# Altium schematic symbol library PowerSupply.SchLib: 43 symbols
Pins are listed as number, name and electrical type; pins without a type are passive.

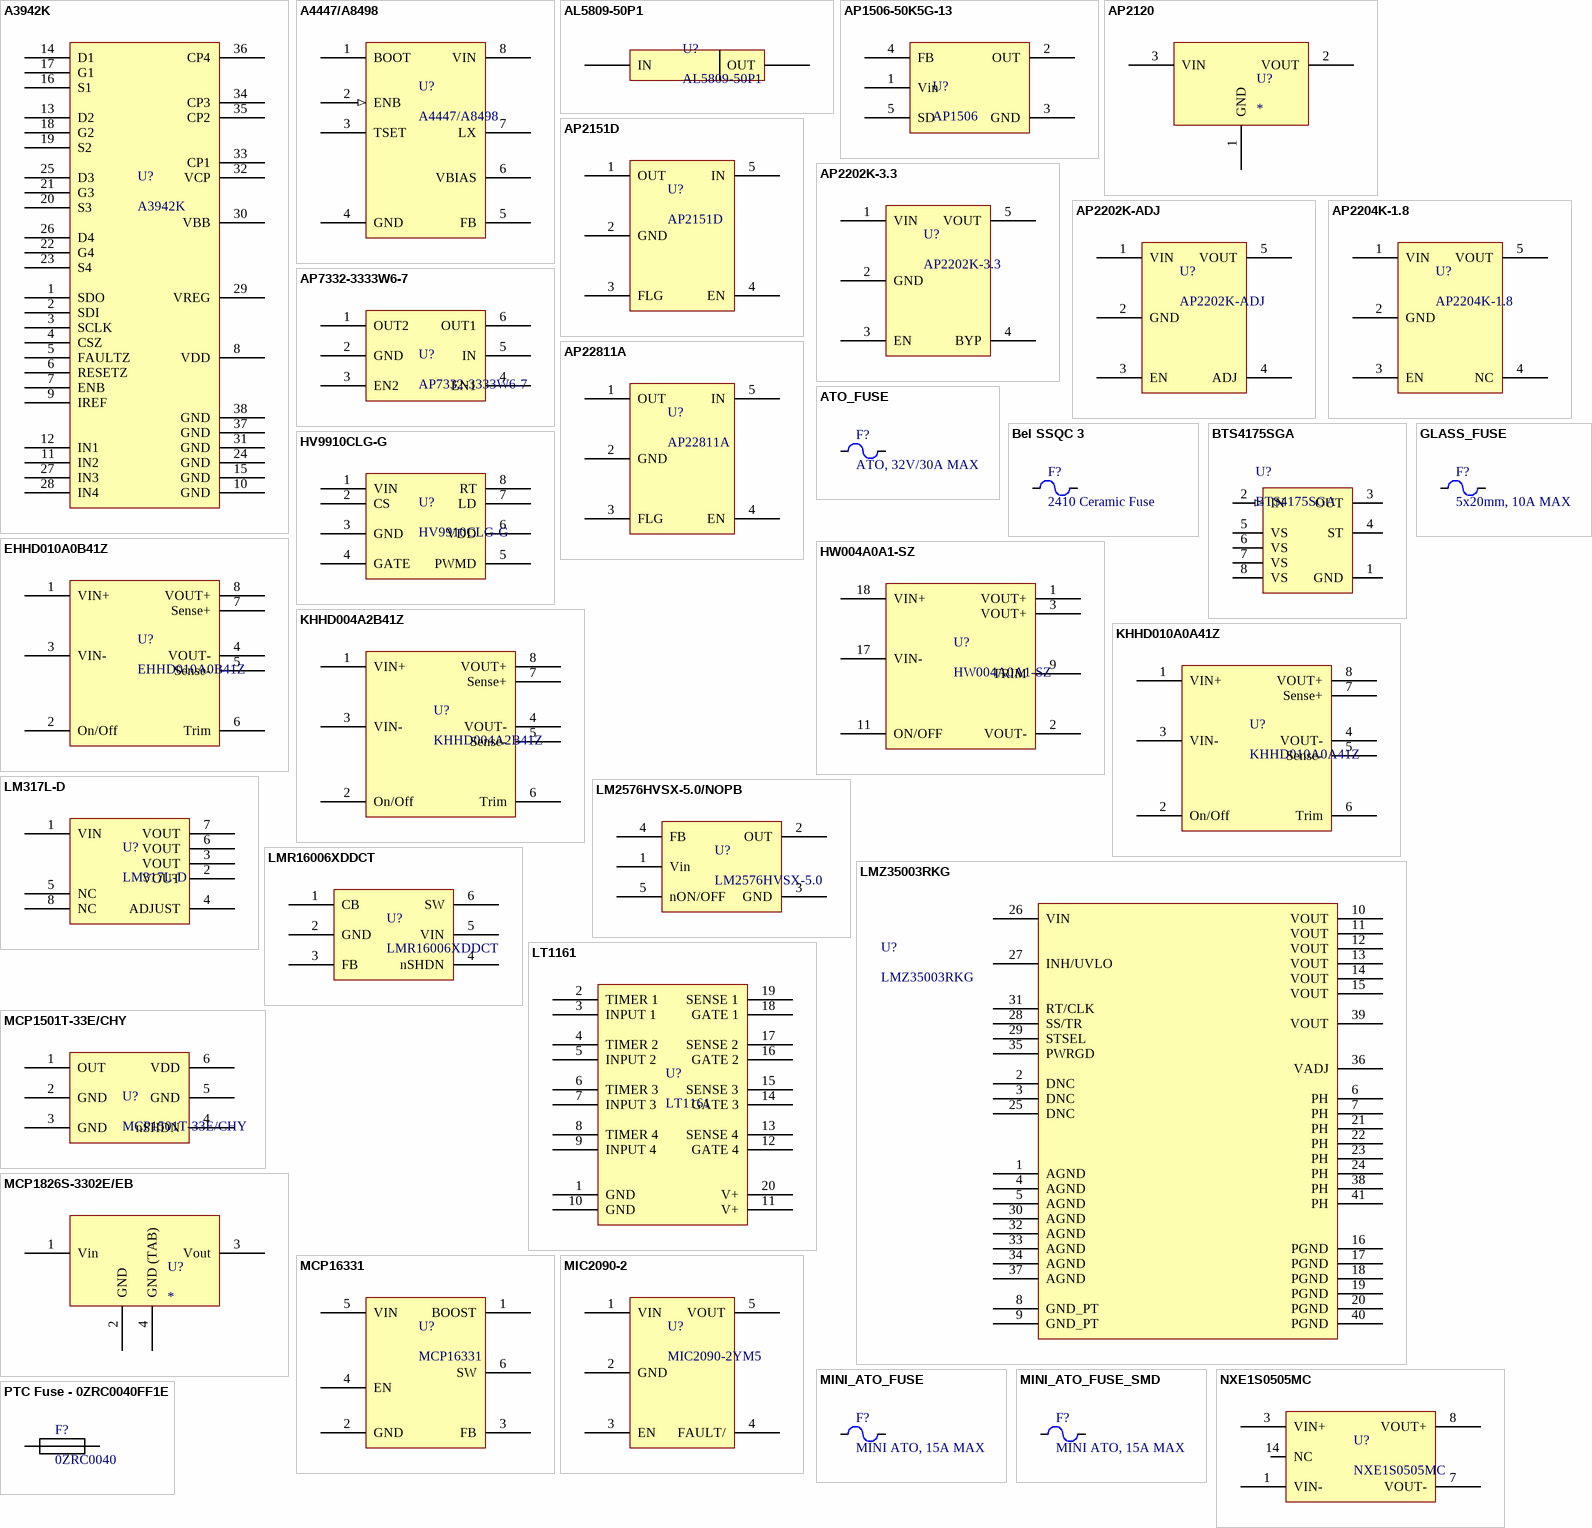
[diagram p0: symbols A3942K to PTC Fuse - 0ZRC0040FF1E]

## A3942K
designator U?
Quad High Side NFET Gate Driver
footprint A3942K - TSSOP50P640X120-38N (TSSOP, 38-Leads, Body 9.8x4.5mm (max), Pitch 0.50mm, IPC Medium Density)
pins: 1 SDO, 2 SDI, 3 SCLK, 4 CSZ, 5 FAULTZ, 6 RESETZ, 7 ENB, 8 VDD, 9 IREF, 10 GND, 11 IN2, 12 IN1, 13 D2, 14 D1, 15 GND, 16 S1, 17 G1, 18 G2, 19 S2, 20 S3, 21 G3, 22 G4, 23 S4, 24 GND, 25 D3, 26 D4, 27 IN3, 28 IN4, 29 VREG, 30 VBB, 31 GND, 32 VCP, 33 CP1, 34 CP3, 35 CP2, 36 CP4, 37 GND, 38 GND

## A4447/A8498
designator U?
Buck Converter, 50V input, 1.5A Adjustable Output; Supplier 1: Digi-Key; Supplier Part Number 1: 620-1329-1-ND; Supplier 2: Digi-Key; Supplier Part Number 2: 620-1160-1-ND
footprint A4447/A8498 - SOIC127P600X175_HS-9N (SOIC, 8-Leads, Body 4.90x3.90mm, Pitch 1.27mm, Thermal Pad 3.30x2.41mm, IPC Medium Density)
pins: 1 BOOT "Gate drive boost node", 2 ENB (in), 3 TSET "Off time setting", 4 GND (power), 5 FB "Feedback for adjustable regulation", 6 VBIAS "Bias supply input", 7 LX "Buck switching node", 8 VIN (power) "Supply input"

## AL5809-50P1
designator U?
LED Driver IC 1 Output Linear  PWM Dimming 50mA PowerDI™ 123; Supplier 1: Digi-Key; Supplier 2: Mouser; Supplier Part Number 1: AL5809-50P1-7DICT-ND; Supplier Part Number 2: 621-AL5809-50P1-7
footprint AL5809 - SODFL370X100-2M (SODFL, 2-Leads, Body 1.78x3.70mm, IPC Low Density)
pins: 1 IN, 2 OUT

## AP1506-50K5G-13
designator U?, comment AP1506
footprint AP1506-50K5G-13 (D2-PAK, 6-Pads, Body 9.6x10.5mm (max), IPC Medium Density)
pins: 1 Vin, 2 OUT, 3 GND, 4 FB, 5 SD

## AP2120
designator U?
3.3V LDO Low Noise
footprint AP2120_SOT23 (SOT23, 3-Leads, Body 3.0x2.5mm (max), Pitch 0.89mm, IPC Medium Density)
pins: 1 GND, 2 VOUT, 3 VIN

## AP2151D
designator U?
USB Power Switch/Driver 500mA SOT-25; Supplier 1: Digi-Key; Supplier 2: Mouser; Supplier Part Number 1: AP2151DWG-7DICT-ND; Supplier Part Number 2: 621-AP2151DWG-7
footprint AP22811 - SOT95P285X140-5M (SOT23, 5-Leads, Body 3.00x2.85mm, Pitch 0.95mm, IPC Low Density)
pins: 1 OUT, 2 GND, 3 FLG, 4 EN, 5 IN

## AP2202K-3.3
designator U?
3.3V 150mA LDO regulator; Supplier 1: Mouser; Supplier Part Number 1: 621-AP2202K-3.3TRG1; Supplier 2: Digi-Key; Supplier Part Number 2: AP2202K-3.3TRG1DICT-ND; Supplier 3: Arrow; Supplier Part Number 3: PWagzdsTFFHKE_U17B45SP-NtndBrheJIaI5hB7gHD0ZVywxIBNyoAQstvnyfZZ0
footprint AP2202 - SOT95P270X145-5N (SOT23, 5-Leads, Body 2.92x2.70mm, Pitch 0.95mm, IPC Medium Density)
pins: 1 VIN, 2 GND, 3 EN, 4 BYP, 5 VOUT

## AP2202K-ADJ
designator U?
Adjustable Linear Regulator, 13.2V input; Supplier 1: Digi-Key; Supplier Part Number 1: AP2202K-ADJTRG1DICT-ND; Supplier 2: Digi-Key; Supplier Part Number 2: 576-1262-1-ND
footprint AP2202 - SOT95P270X145-5N (SOT23, 5-Leads, Body 2.92x2.70mm, Pitch 0.95mm, IPC Medium Density)
pins: 1 VIN, 2 GND, 3 EN, 4 ADJ, 5 VOUT

## AP2204K-1.8
designator U?
Linear Voltage Regulator IC 1 Output 150mA SOT-23-5; Supplier 1: Digi-Key; Supplier 2: Mouser; Supplier Part Number 1: AP2204K-1.8TRG1DICT-ND; Supplier Part Number 2: 621-AP2204K-1.8TRG1
footprint AP2202 - SOT95P270X145-5N (SOT23, 5-Leads, Body 2.92x2.70mm, Pitch 0.95mm, IPC Medium Density)
pins: 1 VIN, 2 GND, 3 EN, 4 NC, 5 VOUT

## AP7332-3333W6-7
designator U?
Dual 300mA, 3.3V LDO, 60uA Iq
footprint AP7332-3333W6-7 - SOT95P285X130-6N (SOT23, 6-Leads, Body 3.1x3.0mm (max), Pitch 0.95mm, IPC Medium Density)
pins: 1 OUT2, 2 GND, 3 EN2, 4 EN1, 5 IN, 6 OUT1

## AP22811A
designator U?
USB Power Switch/Driver 2A SOT-25; Supplier 1: Digi-Key; Supplier 2: Mouser; Supplier Part Number 1: AP22811AW5-7DICT-ND; Supplier Part Number 2: 621-AP22811AW5-7
footprint AP22811 - SOT95P285X140-5M (SOT23, 5-Leads, Body 3.00x2.85mm, Pitch 0.95mm, IPC Low Density)
pins: 1 OUT, 2 GND, 3 FLG, 4 EN, 5 IN

## ATO_FUSE
designator F?, comment ATO, 32V/30A MAX
ATO Fuse holder, 1A - 30A at 32V; Supplier 1: Digi-Key; Supplier Part Number 1: BK-6010-ND
footprint BK-6010
pins: 1, 2

## Bel SSQC 3
designator F?, comment 2410 Ceramic Fuse
2410 Ceramic fuse holder, 2A - 15A; Supplier 1: Digi-Key; Supplier Part Number 1: 507-2020-1-ND
footprint Ceramic 2410 Fuse (Ceramic 2410 fuse holder, 15A. Compatible with Bel SSQC/SSTC and LittelFuse 154 OMNIBLOK. Also accommodates Mini ATO (Keystone 3586))
pins: 1, 2

## BTS4175SGA
designator U?
Smart High-Side Power Switch, 1 Channel, 1.3 A Load Current, -40 to 150 degC, PG-DSO-8-24, Reel, Green; Manufacturer: Infineon; Channels: 1; Green: TRUE; Group: Automotive Qualified; Load Current (typ): 1.3 A; Ptot (max): 1.5 W; Recommended Operating Voltage Max.: 52 V; Recommended Operating Voltage Min.: 6 V; RON @ 25degreesC: 175 mOhm; RON(max) @ 150degreesC: 350 mOhm; toff (max): 200 us; ton (max): 180 us; DatasheetVersion: Rev.1.0; PackageVersion: May-07; PackageReference: PG-DSO-8-24; PackageDescription: 8-Pin Plastic (Green) Dual Small Outline Package, 4.9 x 3.9 mm Body, 1.27 mm Pitch; Supplier 1: Digi-Key; Supplier Part Number 1: BTS4175SGATR-ND; Supplier 2: Digi-Key; Supplier Part Number 2: BTS4175SGACT-ND; Supplier 3: Digi-Key; Supplier Part Number 3: BTS4175SGADKR-ND; Supplier 4: Farnell; Supplier Part Number 4: 2215521; Supplier 5: Newark; Supplier Part Number 5: 47W3392; Supplier 6: Mouser; Supplier Part Number 6: 726-BTS4175SGA; Halogen-free: TRUE; Packing: Reel; Mounting Technology: Surface Mount; PartNumber: BTS4175SGA; ComponentLink1Description: Manufacturer URL; ComponentLink1URL: http://www.infineon.com/; ComponentLink2Description: Datasheet; ComponentLink2URL: http://www.infineon.com/dgdl/BTS4175SGA_final_DS_17-04-29.pdf?folderId=db3a304314dca389011537739e37155f&fileId=db3a30431a5c32f2011a6d4a1040744e&location=en.Products.Automotive_ICs.Smart_High-_and_Low-Side_Switches.PROFET__-_Smart_High_Side_Switches.DATASHEET.BTS4175SGA_final_DS_17-04-29.pdf; ComponentLink3Description: Package Specification; ComponentLink3URL: http://www.infineon.com/dgdl/BSP742RI.pdf?folderId=db3a304314dca389011537739e37155f&fileId=db3a304316f112290116f22466b271a6&sId=db3a30433d68e984013d83055b4a7981
footprint INF-PG-DSO-8-24_N (SOP, 8-Leads, Body 4.9x3.9mm, Pitch 1.27mm, IPC Medium Density)
pins: 1 GND (power) "Ground; Ground connection", 2 IN (in) "Input channel; Input signal. Activate the channel in case of logic high level", 3 OUT (power) "Output; Protected High side power output channel", 4 ST (oc) "Diagnostic feedback; of channel. Open drain.", 5 VS (power) "Battery voltage; Design the wiring for the simultaneous max. short circuit current and also for low thermal resistance", 6 VS (power) "Battery voltage; Design the wiring for the simultaneous max. short circuit current and also for low thermal resistance", 7 VS (power) "Battery voltage; Design the wiring for the simultaneous max. short circuit current and also for low thermal resistance", 8 VS (power) "Battery voltage; Design the wiring for the simultaneous max. short circuit current and also for low thermal resistance"

## EHHD010A0B41Z
designator U?
Isolated DC/DC Converter, 12V 10A Output, 18V - 75V Input; Supplier 1: Digi-Key; Supplier Part Number 1: 555-1341-ND
footprint EHHD010A0B41Z (Isolated DC/DC Converter, 1/8th brick)
pins: 1 VIN+, 2 On/Off, 3 VIN-, 4 VOUT-, 5 Sense-, 6 Trim, 7 Sense+, 8 VOUT+

## GLASS_FUSE
designator F?, comment 5x20mm, 10A MAX
Supplier 1: Digi-Key; Supplier Part Number 1: 486-2019-ND
footprint FUSE - 111 501, 5x15 2AG
pins: 1, 2

## HV9910CLG-G
designator U?
Constant Current Buck Converter
footprint HV9910CLG-G (SOIC, 8-Leads, Body 5.0x4.0mm (max), Pitch 1.27mm, IPC Medium Density)
pins: 1 VIN, 2 CS, 3 GND, 4 GATE, 5 PWMD, 6 VDD, 7 LD, 8 RT

## HW004A0A1-SZ
designator U?
Isolated 5V/4A DC/DC converter, 48V input, negative on/off logic; Supplier 1: Digi-Key; Supplier Part Number 1: 555-1220-ND; Supplier 2: Arrow; Supplier Part Number 2: 3nn0xz0bW4CCVmuvfJnCt84UR2e0IF72dSwPFJFhBqo
footprint HW004A0A-S (5V/4A DC-DC Isolated power module)
pins: 1 VOUT+, 2 VOUT-, 3 VOUT+, 9 TRIM, 11 ON/OFF, 17 VIN-, 18 VIN+

## KHHD004A2B41Z
designator U?
Isolated DC/DC Converter 12V/4.2A Output (50W), 18V - 75V Input; Supplier 1: Digi-Key; Supplier Part Number 1: 555-1295-ND
footprint KHHD004A2B41Z (Isolated DC/DC Converter, 50W Output (5/12V), 18V - 75V Input)
pins: 1 VIN+, 2 On/Off, 3 VIN-, 4 VOUT-, 5 Sense-, 6 Trim, 7 Sense+, 8 VOUT+

## KHHD010A0A41Z
designator U?
Isolated DC/DC Converter 5V/10A Output (50W), 18V - 75V Input; Supplier 1: Digi-Key; Supplier Part Number 1: 555-1297-ND
footprint KHHD004A2B41Z (Isolated DC/DC Converter, 50W Output (5/12V), 18V - 75V Input)
pins: 1 VIN+, 2 On/Off, 3 VIN-, 4 VOUT-, 5 Sense-, 6 Trim, 7 Sense+, 8 VOUT+

## LM317L-D
designator U?
100mA Adjustable Output Linear Regulator; Supplier 1: Digi-Key; Supplier Part Number 1: LM317LDR2GOSCT-ND; Supplier 2: Mouser; Supplier Part Number 2: 863-LM317LDR2G
footprint LM317L - SOIC127P600X175-8M (SOIC, 8-Leads, Body 4.90x3.90mm, Pitch 1.27mm, IPC Low Density)
simulation model LM317
pins: 1 VIN, 2 VOUT, 3 VOUT, 4 ADJUST, 5 NC, 6 VOUT, 7 VOUT, 8 NC

## LM2576HVSX-5.0/NOPB
designator U?, comment LM2576HVSX-5.0
footprint TL2575HV-12IKTTR
pins: 1 Vin, 2 OUT, 3 GND, 4 FB, 5 nON/OFF

## LMR16006XDDCT
designator U?
0.6A 60V Buck converter, 28uA Quiescent Current; Supplier 1: Mouser; Supplier Part Number 1: 595-LMR16006XDDCT; Supplier 2: Digi-Key; Supplier Part Number 2: 296-38546-1-ND; Supplier 3: Arrow; Supplier Part Number 3: bwZbQCg-gXK66epyvm3AdWFyWDcBn-UaULM0ahAOy8M
footprint LMR16006XDDCT - SOT95P280X110-6N (SOT23, 6-Leads, Body 3.0x3.0mm (max), Pitch 0.95mm, IPC Medium Density)
pins: 1 CB, 2 GND, 3 FB, 4 nSHDN, 5 VIN, 6 SW

## LMZ35003RKG
designator U?
DC/DC Converter 1 2.5 ~ 15 V 2.5A Output, 7V - 50V Input; Supplier 1: Digi-Key; Supplier Part Number 1: 296-43647-1-ND
footprint LMZ35003RKG
pins: 1 AGND, 2 DNC, 3 DNC, 4 AGND, 5 AGND, 6 PH, 7 PH, 8 GND_PT, 9 GND_PT, 10 VOUT, 11 VOUT, 12 VOUT, 13 VOUT, 14 VOUT, 15 VOUT, 16 PGND, 17 PGND, 18 PGND, 19 PGND, 20 PGND, 21 PH, 22 PH, 23 PH, 24 PH, 25 DNC, 26 VIN, 27 INH/UVLO, 28 SS/TR, 29 STSEL, 30 AGND, 31 RT/CLK, 32 AGND, 33 AGND, 34 AGND, 35 PWRGD, 36 VADJ, 37 AGND, 38 PH, 39 VOUT, 40 PGND, 41 PH

## LT1161
designator U?
Quad High-Side NFET Driver
footprint LTC1161 (SOP, 20-Leads, Body 13.0x7.6mm (max), Pitch 1.27mm, IPC Medium Density)
pins: 1 GND, 2 TIMER 1, 3 INPUT 1, 4 TIMER 2, 5 INPUT 2, 6 TIMER 3, 7 INPUT 3, 8 TIMER 4, 9 INPUT 4, 10 GND, 11 V+, 12 GATE 4, 13 SENSE 4, 14 GATE 3, 15 SENSE 3, 16 GATE 2, 17 SENSE 2, 18 GATE 1, 19 SENSE 1, 20 V+

## MCP1501T-33E/CHY
designator U?
3.3V Reference, 0.1%, 20mA, 50PPM Tc; Supplier 2: Digi-Key; Supplier Part Number 2: MCP1501T-33E/CHYCT-ND; Supplier 1: Arrow
footprint AP7332-3333W6-7 - SOT95P285X130-6N (SOT23, 6-Leads, Body 3.1x3.0mm (max), Pitch 0.95mm, IPC Medium Density)
pins: 1 OUT, 2 GND, 3 GND, 4 nSHDN, 5 GND, 6 VDD

## MCP1826S-3302E/EB
designator U?
3.3V LDO, 1A, Low Iq
footprint MCP1826S_TO254 (D2-PAK, 4-Pads, Body 9.6x10.6mm (max), IPC Medium Density)
pins: 1 Vin, 2 GND, 3 Vout, 4 GND (TAB)

## MCP16331
designator U?
0.6A 50V Buck converter; Supplier 1: Mouser; Supplier Part Number 1: 579-MCP16331T-E/CH; Supplier 2: Digi-Key; Supplier Part Number 2: MCP16331T-E/CHCT-ND; Supplier 3: Arrow; Supplier Part Number 3: WLu3ZQwC_TohMpI9-STL0PfQghLbqItlBOhlShv2q90
footprint LMR16006XDDCT - SOT95P280X110-6N (SOT23, 6-Leads, Body 3.0x3.0mm (max), Pitch 0.95mm, IPC Medium Density)
pins: 1 BOOST, 2 GND, 3 FB, 4 EN, 5 VIN, 6 SW

## MIC2090-2
designator U?, comment MIC2090-2YM5
5V power distribution switch, 50mA, latch-off protection; Supplier 1: Digi-Key; Supplier Part Number 1: 576-3964-1-ND; Supplier 2: Mouser; Supplier Part Number 2: 998-MIC2090-2YM5TR
footprint MIC2090 - SOT95P280X130-5M (SOT23, 5-Leads, Body 2.90x2.80mm, Pitch 0.95mm, IPC Low Density)
pins: 1 VIN, 2 GND, 3 EN, 4 FAULT/, 5 VOUT

## MINI_ATO_FUSE
designator F?, comment MINI ATO, 15A MAX
Mini ATO Fuse holder, 2A - 15A; Supplier 1: Digi-Key; Supplier Part Number 1: BK-6013-ND
footprint BK-6013
pins: 1, 2

## MINI_ATO_FUSE_SMD
designator F?, comment MINI ATO, 15A MAX
Mini ATO SMD Fuse holder, 2A - 15A; Supplier 1: Digi-Key; Supplier Part Number 1: 36-3586-ND; Supplier 2: Mouser; Supplier Part Number 2: 534-3586
footprint Keystone-3586 (Mini-ATO fuse holder, 30A)
pins: 1, 2

## NXE1S0505MC
designator U?
Isolated 1W DC/DC converter, 5V to 5V; Supplier 1: Digi-Key; Supplier Part Number 1: 811-3040-1-ND; Supplier 2: Arrow
footprint NXE1S0505MC
pins: 1 VIN-, 3 VIN+, 7 VOUT-, 8 VOUT+, 14 NC

## PTC Fuse - 0ZRC0040FF1E
designator F?, comment 0ZRC0040
footprint PTC Fuse - 0ZRC0040FF1E
pins: 1, 2

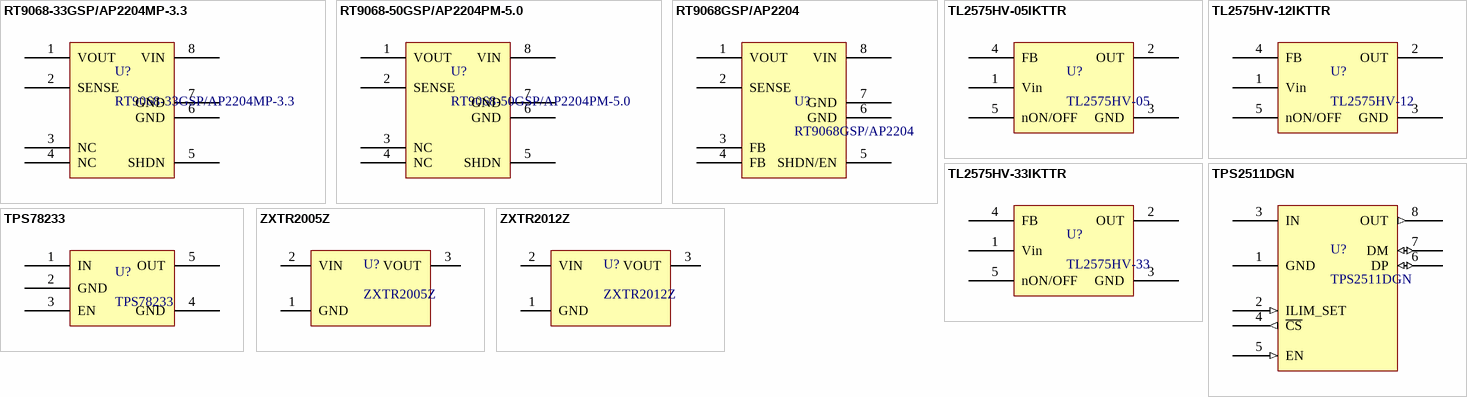
[diagram p1: symbols RT9068-33GSP/AP2204MP-3.3 to ZXTR2012Z]

## RT9068-33GSP/AP2204MP-3.3
designator U?
3.3V Regulator, 60V input
footprint RT9068-33GSP (SOP, 8-Leads, Body 5.0x4.0mm (max), Pitch 1.27mm, IPC Medium Density)
pins: 1 VOUT, 2 SENSE, 3 NC, 4 NC, 5 SHDN, 6 GND, 7 GND, 8 VIN

## RT9068-50GSP/AP2204PM-5.0
designator U?
5.0V Regulator, 60V input
footprint RT9068-33GSP (SOP, 8-Leads, Body 5.0x4.0mm (max), Pitch 1.27mm, IPC Medium Density)
pins: 1 VOUT, 2 SENSE, 3 NC, 4 NC, 5 SHDN, 6 GND, 7 GND, 8 VIN

## RT9068GSP/AP2204
designator U?
LDO, 24V/60V input, ADJ output (combined footprint for both parts)
footprint RT9068-33GSP (SOP, 8-Leads, Body 5.0x4.0mm (max), Pitch 1.27mm, IPC Medium Density)
pins: 1 VOUT, 2 SENSE, 3 FB, 4 FB, 5 SHDN/EN, 6 GND, 7 GND, 8 VIN

## TL2575HV-05IKTTR
designator U?, comment TL2575HV-05
5V, 1A Switcher
footprint TL2575HV-12IKTTR
pins: 1 Vin, 2 OUT, 3 GND, 4 FB, 5 nON/OFF

## TL2575HV-12IKTTR
designator U?, comment TL2575HV-12
12V, 1A Switcher
footprint TL2575HV-12IKTTR
pins: 1 Vin, 2 OUT, 3 GND, 4 FB, 5 nON/OFF

## TL2575HV-33IKTTR
designator U?, comment TL2575HV-33
3.3V, 1A Switcher
footprint TL2575HV-12IKTTR
pins: 1 Vin, 2 OUT, 3 GND, 4 FB, 5 nON/OFF

## TPS2511DGN
designator U?
USB Dedicated Charging Port (DCP), Power Switch; Supplier 1: Digi-Key; Supplier Part Number 1: 296-30552-1-ND
pins: 1 GND "Gate drive boost node", 2 ILIM_SET (in), 3 IN (power) "Off time setting", 4 ~{CS} (out), 5 EN (in) "Feedback for adjustable regulation", 6 DP (io) "Bias supply input", 7 DM (io) "Buck switching node", 8 OUT (out) "Supply input"

## TPS78233
designator U?
0.5uA Iq, 60V 150mA 3.3V LDO
footprint TPS78233 - SOT95P280X110-5N (SOT23, 5-Leads, Body 3.0x3.0mm (max), Pitch 0.95mm, IPC Medium Density)
pins: 1 IN, 2 GND, 3 EN, 4 GND, 5 OUT

## ZXTR2005Z
designator U?
100V input, 5V linear regulator, 30mA; Supplier 1: Digi-Key; Supplier Part Number 1: ZXTR2005Z-13DICT-ND
footprint ZXTR2012Z - SOT89-150P409X160-3M (SOT89, 3-Leads, Body 4.50x2.45mm, Pitch 1.50mm, Lead Span 4.1mm, IPC Low Density)
pins: 1 GND, 2 VIN, 3 VOUT

## ZXTR2012Z
designator U?
100V input, 12V linear regulator, 30mA; Supplier 1: Arrow; Supplier Part Number 1: jg6nEp2X7Z1_vHROR8BbOYfqjX35DKsGgWgzwo8sbRA; Supplier 2: Digi-Key; Supplier Part Number 2: ZXTR2012Z-7DICT-ND
footprint ZXTR2012Z - SOT89-150P409X160-3M (SOT89, 3-Leads, Body 4.50x2.45mm, Pitch 1.50mm, Lead Span 4.1mm, IPC Low Density)
pins: 1 GND, 2 VIN, 3 VOUT